# EAGLE library part AD5173 (library FSAE Electric)
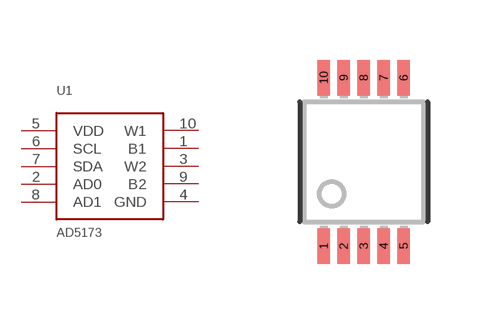
[diagram p44: symbol with the pads of MSOP-10; footprint MSOP-10]

Designator prefix U1

## AD5173  [MSOP-10]
1  B1
2  AD0
3  W2
4  GND
5  VDD
6  SCL
7  SDA
8  AD1
9  B2
10  W1

## Footprint MSOP-10 (pad centres in mm)
smd 0.305 x 0.889: 1 -1,-2.11; 2 -0.5,-2.11; 3 0,-2.11; 4 0.5,-2.11; 5 1,-2.11; 6 1,2.11; 7 0.5,2.11; 8 0,2.11; 9 -0.5,2.11; 10 -1,2.11